# Altium schematic symbol library EVP-BB4A9B000.SchLib: 1 symbol
Pins are listed as number, name and electrical type; pins without a type are passive.

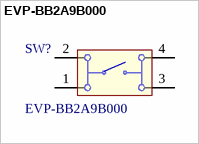
[diagram p0: symbol EVP-BB2A9B000]

## EVP-BB2A9B000
designator SW?
SWITCH TACTILE SPST-NO 0.02A 15V / Manufacturer PN: EVP-BB4A9B000; MF: Panasonic Electronic; Digi-Key_Purchase_URL: https://www.digikey.com/product-detail/en/panasonic-electronic-components/EVP-BB2A9B000/P19888CT-ND/6212411?utm_source=snapeda&utm_medium=aggregator&utm_campaign=symbol; MP: EVP-BB2A9B000; Digi-Key_Part_Number: P19888CT-ND; SnapEDA_Link: https://www.snapeda.com/parts/EVP-BB2A9B000/Panasonic%20Electronic%20Components/view-part/?ref=snap; Package: None; Value: *
footprint EVP-BB4A9B000
pins: 1, 2, 3, 4